# Altium footprint library 针式可调电阻.PcbLib: 3 footprints
Each footprint in its own frame and in the unit in brackets; x right, y up, seen from the top. Pads: shape width x height; smd on the part's side, far side on the other; paste and mask are expansions set on the pad; w line width, h text height; cw(c..) or ccw(c..) is an arc to the next point about the centre after c.
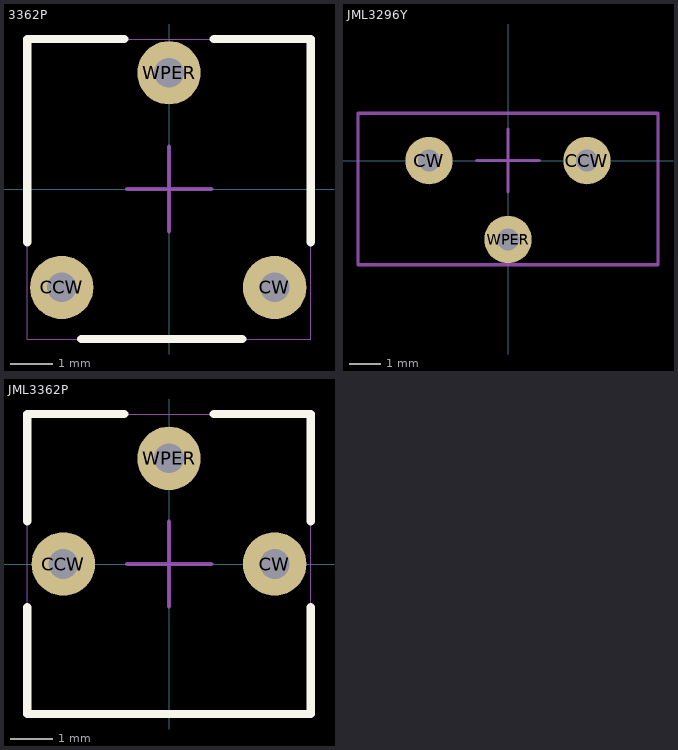
[diagram p0: the footprints below, top view; thin cyan lines are the x and y axes]

## 3362P [mm] "针式可调电阻"
height 5
pads (3):
  round 1.5 hole 0.7: CCW(-2.54,-2.33) CW(2.5,-2.33) WPER(0,2.75)
Top Overlay:
  lines w0.2: -3.35,-1.264 -3.35,3.55 -1.064,3.55 ; -2.08,-3.55 1.73,-3.55 ; 1.064,3.55 3.35,3.55 3.35,-1.264
Mechanical 13:
  lines w0.02: -3.35,-3.55 -3.35,3.55 3.35,3.55 3.35,-3.55 -3.35,-3.55
Mechanical 15:
  lines w0.1: -0.991,0 1,0 ; 0,-1 0,1
3D body: height 5, standoff -3.57, extent -3.35,-3.55 3.35,3.55

## JML3296Y [mm] "立式可调电阻"
height 12
pads (3):
  round 1.5 hole 0.7: CCW(2.5,0) CW(-2.5,0) WPER(0,-2.5)
Mechanical 13:
  lines w0.1: -4.75,-3.3 -4.75,1.5 4.75,1.5 4.75,-3.3 -4.75,-3.3
Mechanical 15:
  lines w0.1: -1,0 0.991,0 ; 0,-1 0,1
3D body: height 11.59, standoff -3.58, extent -4.78,-3.33 4.75,1.5

## JML3362P [mm] "针式可调电阻（百斯特）"
height 5
pads (3):
  round 1.5 hole 0.7: CCW(-2.5,0) CW(2.5,0) WPER(0,2.5)
Top Overlay:
  lines w0.2: -3.35,-1.019 -3.35,-3.55 3.35,-3.55 3.35,-1.019 ; -3.35,1.016 -3.35,3.55 -1.064,3.55 ; 1.064,3.55 3.35,3.55 3.35,1.016
Mechanical 13:
  lines w0.02: -3.35,-3.55 -3.35,3.55 3.35,3.55 3.35,-3.55 -3.35,-3.55
Mechanical 15:
  lines w0.1: -0.991,0 1,0 ; 0,-1 0,1
3D body: height 5, standoff -3.57, extent -3.35,-3.55 3.35,3.55